# EAGLE library part SD_CONNECTOR (library captain-slow)
SD Memory Connector 9P Push-Push Mouser Part No: 523-101-00313-68-02
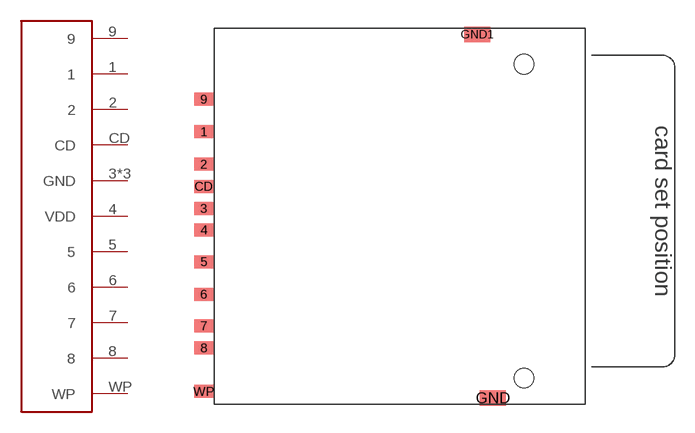
[diagram p0: symbol with the pads of SD-CONNECTOR; footprint SD-CONNECTOR]

Designator prefix -

## SD_CONNECTOR  [SD-CONNECTOR]
1  1
2  2
3  GND
4  VDD
5  5
6  6
7  7
8  8
9  9
CD  CD
GND  GND
GND1  GND
WP  WP

## Footprint SD-CONNECTOR (pad centres in mm)
SD Memory Connector 9P Push-Push Mouser Part No: 523-101-00313-68-02
smd 1.5 x 1: 1 -24.31,6.1; 2 -24.31,3.6; 3 -24.31,0.2; 4 -24.31,-1.45; 5 -24.31,-3.9; 6 -24.31,-6.4; 7 -24.31,-8.83; 8 -24.31,-10.53; 9 -24.31,8.6; CD -24.31,1.9; WP -24.31,-13.88
smd 2 x 1.2: GND -2.1,-14.4; GND1 -3.3,13.6
hole 1.5 at 0.31,11.3
hole 1.5 at 0.31,-12.85